# Altium schematic symbol library Schlib1.SchLib: 4 symbols
Pins are listed as number, name and electrical type; pins without a type are passive.

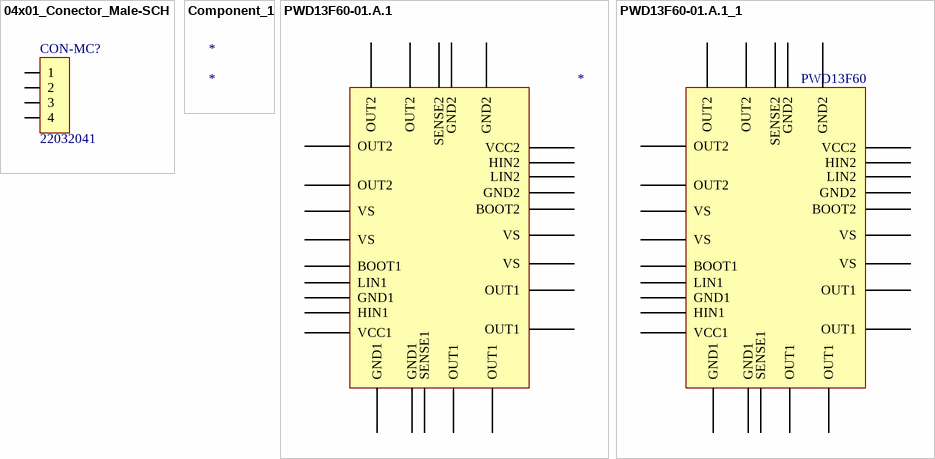
[diagram p0: symbols 04x01_Conector_Male-SCH to PWD13F60-01.A.1_1]

## 04x01_Conector_Male-SCH
designator CON-MC?, comment 22032041
CONN HEADER 4POS .100 VERT TIN
footprint 04x01_Conector_Male (0022032041)
pins: 1, 2, 3, 4

## Component_1
designator *

## PWD13F60-01.A.1
designator *, comment PWD13F60  (value not drawn)
High-density power driver- High voiltage full bridge
footprint QFN65P1000X1300X80_HS-29N
pins: 1 OUT2, 2 OUT2, 3 VS, 4 VS, 5 BOOT1, 6 LIN1, 7 GND1, 8 HIN1, 9 VCC1, 10 GND1, 11 GND1, 12 SENSE1, 13 OUT1, 14 OUT1, 15 OUT1, 16 OUT1, 17 VS, 18 VS, 19 BOOT2, 20 GND2, 21 LIN2, 22 HIN2, 23 VCC2, 24 GND2, 25 GND2, 26 SENSE2, 27 OUT2, 28 OUT2

## PWD13F60-01.A.1_1
designator PWD13F60, comment PWD13F60  (value not drawn)
High-density power driver- High voiltage full bridge
footprint QFN65P1000X1300X80_HS-29N
pins: 1 OUT2, 2 OUT2, 3 VS, 4 VS, 5 BOOT1, 6 LIN1, 7 GND1, 8 HIN1, 9 VCC1, 10 GND1, 11 GND1, 12 SENSE1, 13 OUT1, 14 OUT1, 15 OUT1, 16 OUT1, 17 VS, 18 VS, 19 BOOT2, 20 GND2, 21 LIN2, 22 HIN2, 23 VCC2, 24 GND2, 25 GND2, 26 SENSE2, 27 OUT2, 28 OUT2